# EAGLE library part PICOCLASP-8 (library greg-Connector)
8-pin Molex Pico-Clasp headers Molex Part numbers Right Angle, gold plated, 1.0 mm pitch: 2023960807 Right Angle, tin plated, 1.0 mm pitch: 5015680807
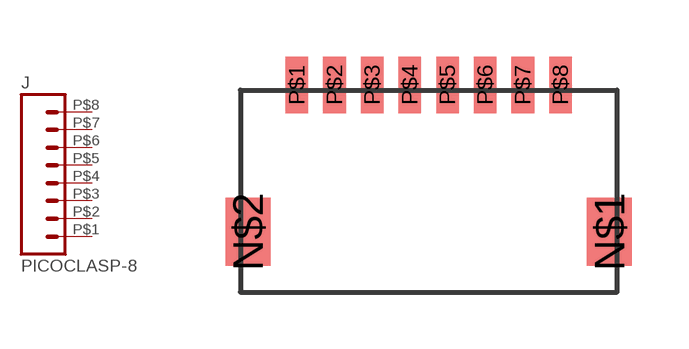
[diagram p1: symbol with the pads of PICOCLASP-8-RA; footprint PICOCLASP-8-RA]

Designator prefix J

## PICOCLASP-8RA  [PICOCLASP-8-RA]
P$1  1  pas
P$2  2  pas
P$3  3  pas
P$4  4  pas
P$5  5  pas
P$6  6  pas
P$7  7  pas
P$8  8  pas

## Footprint PICOCLASP-8-RA (pad centres in mm)
smd 1.2 x 1.8: N$1 4.8,-1.08; N$2 -4.8,-1.08
smd 0.6 x 1.5: P$1 -3.5,2.82; P$2 -2.5,2.82; P$3 -1.5,2.82; P$4 -0.5,2.82; P$5 0.5,2.82; P$6 1.5,2.82; P$7 2.5,2.82; P$8 3.5,2.82